# Altium schematic symbol library Moderkort Components.SchLib: 2 symbols
Pins are listed as number, name and electrical type; pins without a type are passive.

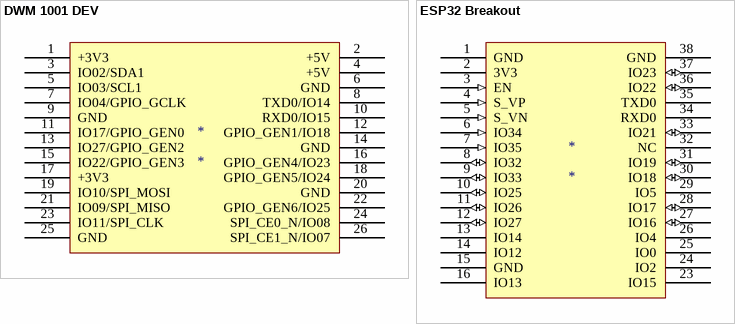
[diagram p0: symbols DWM 1001 DEV to ESP32 Breakout]

## DWM 1001 DEV
designator *
footprint DWM-1001 DEV (Pin Header, pitch 2.54 mm, THT, Vertical, dual row, 26p)
pins: 1 +3V3, 2 +5V, 3 IO02/SDA1, 4 +5V, 5 IO03/SCL1, 6 GND, 7 IO04/GPIO_GCLK, 8 TXD0/IO14, 9 GND, 10 RXD0/IO15, 11 IO17/GPIO_GEN0, 12 GPIO_GEN1/IO18, 13 IO27/GPIO_GEN2, 14 GND, 15 IO22/GPIO_GEN3, 16 GPIO_GEN4/IO23, 17 +3V3, 18 GPIO_GEN5/IO24, 19 IO10/SPI_MOSI, 20 GND, 21 IO09/SPI_MISO, 22 GPIO_GEN6/IO25, 23 IO11/SPI_CLK, 24 SPI_CE0_N/IO08, 25 GND, 26 SPI_CE1_N/IO07

## ESP32 Breakout
designator *
footprint ESP32 Breakout
pins: 1 GND (power), 2 3V3 (power), 3 EN (in), 4 S_VP (in), 5 S_VN (in), 6 IO34 (in), 7 IO35 (in), 8 IO32 (io), 9 IO33 (io), 10 IO25 (io), 11 IO26 (io), 12 IO27 (io), 13 IO14, 14 IO12, 15 GND, 16 IO13, 23 IO15, 24 IO2, 25 IO0, 26 IO4, 27 IO16 (io), 28 IO17 (io), 29 IO5, 30 IO18 (io), 31 IO19 (io), 32 NC, 33 IO21 (io), 34 RXD0, 35 TXD0, 36 IO22 (io), 37 IO23 (io), 38 GND